# EAGLE library part 40PIN (library TIStellarisLaunchpad)
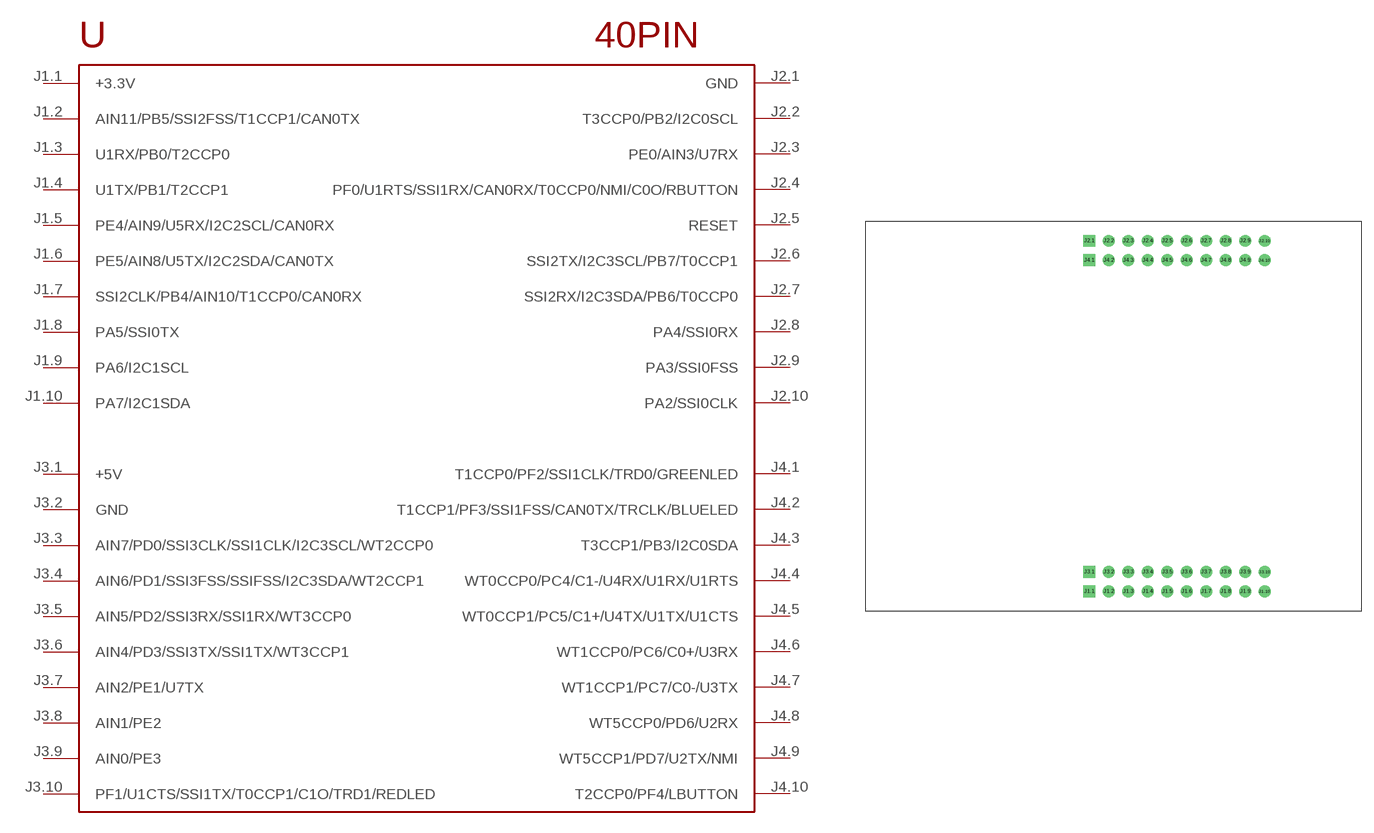
[diagram p0: symbol with the pads of 40PIN; footprint 40PIN]

Designator prefix -

## 40PIN  [40PIN]
J1.1  +3.3V
J1.2  AIN11/PB5/SSI2FSS/T1CCP1/CAN0TX
J1.3  U1RX/PB0/T2CCP0
J1.4  U1TX/PB1/T2CCP1
J1.5  PE4/AIN9/U5RX/I2C2SCL/CAN0RX
J1.6  PE5/AIN8/U5TX/I2C2SDA/CAN0TX
J1.7  SSI2CLK/PB4/AIN10/T1CCP0/CAN0RX
J1.8  PA5/SSI0TX
J1.9  PA6/I2C1SCL
J1.10  PA7/I2C1SDA
J2.1  GND
J2.2  T3CCP0/PB2/I2C0SCL
J2.3  PE0/AIN3/U7RX
J2.4  PF0/U1RTS/SSI1RX/CAN0RX/T0CCP0/NMI/C0O/RBUTTON
J2.5  RESET
J2.6  SSI2TX/I2C3SCL/PB7/T0CCP1
J2.7  SSI2RX/I2C3SDA/PB6/T0CCP0
J2.8  PA4/SSI0RX
J2.9  PA3/SSI0FSS
J2.10  PA2/SSI0CLK
J3.1  +5V
J3.2  GND
J3.3  AIN7/PD0/SSI3CLK/SSI1CLK/I2C3SCL/WT2CCP0
J3.4  AIN6/PD1/SSI3FSS/SSIFSS/I2C3SDA/WT2CCP1
J3.5  AIN5/PD2/SSI3RX/SSI1RX/WT3CCP0
J3.6  AIN4/PD3/SSI3TX/SSI1TX/WT3CCP1
J3.7  AIN2/PE1/U7TX
J3.8  AIN1/PE2
J3.9  AIN0/PE3
J3.10  PF1/U1CTS/SSI1TX/T0CCP1/C1O/TRD1/REDLED
J4.1  T1CCP0/PF2/SSI1CLK/TRD0/GREENLED
J4.2  T1CCP1/PF3/SSI1FSS/CAN0TX/TRCLK/BLUELED
J4.3  T3CCP1/PB3/I2C0SDA
J4.4  WT0CCP0/PC4/C1-/U4RX/U1RX/U1RTS
J4.5  WT0CCP1/PC5/C1+/U4TX/U1TX/U1CTS
J4.6  WT1CCP0/PC6/C0+/U3RX
J4.7  WT1CCP1/PC7/C0-/U3TX
J4.8  WT5CCP0/PD6/U2RX
J4.9  WT5CCP1/PD7/U2TX/NMI
J4.10  T2CCP0/PF4/LBUTTON

## Footprint 40PIN (pad centres in mm)
drill 1.041 square: J1.1 -10.16,-22.86; J2.1 -10.16,22.86; J3.1 -10.16,-20.32; J4.1 -10.16,20.32
drill 1.041: J1.2 -7.62,-22.86; J1.3 -5.08,-22.86; J1.4 -2.54,-22.86; J1.5 0,-22.86; J1.6 2.54,-22.86; J1.7 5.08,-22.86; J1.8 7.62,-22.86; J1.9 10.16,-22.86; J1.10 12.7,-22.86; J2.2 -7.62,22.86; J2.3 -5.08,22.86; J2.4 -2.54,22.86; J2.5 0,22.86; J2.6 2.54,22.86; J2.7 5.08,22.86; J2.8 7.62,22.86; J2.9 10.16,22.86; J2.10 12.7,22.86; J3.2 -7.62,-20.32; J3.3 -5.08,-20.32; J3.4 -2.54,-20.32; J3.5 0,-20.32; J3.6 2.54,-20.32; J3.7 5.08,-20.32; J3.8 7.62,-20.32; J3.9 10.16,-20.32; J3.10 12.7,-20.32; J4.2 -7.62,20.32; J4.3 -5.08,20.32; J4.4 -2.54,20.32; J4.5 0,20.32; J4.6 2.54,20.32; J4.7 5.08,20.32; J4.8 7.62,20.32; J4.9 10.16,20.32; J4.10 12.7,20.32